# EAGLE library part ADXL3XX (library nonolith)
ADXL3XX Low-Power 3 Axis Accelerometer LFCSP16-R - 16 Pin LFCSP Package (Reflow footprint) LFSCP16-W - 16 Pin LFCSP Package (Wave footprint with extended pads for hand soldering)
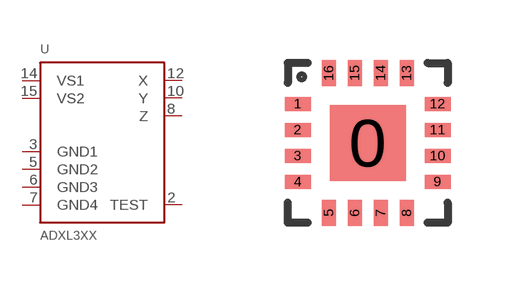
[diagram p21: symbol with the pads of LFCSP-16; footprint LFCSP-16]

Designator prefix U

## ADXL3XX  [LFCSP-16]
2  TEST
3  GND1
5  GND2
6  GND3
7  GND4
8  Z
10  Y
12  X
14  VS1
15  VS2

## Footprint LFCSP-16 (pad centres in mm)
16-Terminal Leadless Frame Chip Scale Package [LFCSP] (CP) - Reflow Footprint Source: Analog Devices .. 780914713ADD8704_0.pdf
smd 1.9 x 1.9: 0 0,0
smd 0.65 x 0.35: 1 -1.75,0.975; 2 -1.75,0.325; 3 -1.75,-0.325; 4 -1.75,-0.975; 9 1.75,-0.975; 10 1.75,-0.325; 11 1.75,0.325; 12 1.75,0.975
smd 0.35 x 0.65: 5 -0.975,-1.75; 6 -0.325,-1.75; 7 0.325,-1.75; 8 0.975,-1.75; 13 0.975,1.75; 14 0.325,1.75; 15 -0.325,1.75; 16 -0.975,1.75